# Altium schematic symbol library LT8616EUDE.Schlib: 1 symbol
Pins are listed as number, name and electrical type; pins without a type are passive.

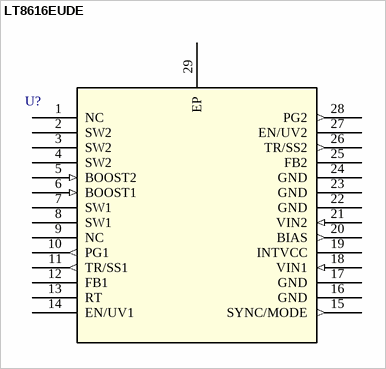
[diagram p0: symbol LT8616EUDE]

## LT8616EUDE
designator U?
Dual OutPut Buck Regulator
pins: 1 NC, 2 SW2 (power), 3 SW2 (power), 4 SW2 (power), 5 BOOST2 (in), 6 BOOST1 (in), 7 SW1 (power), 8 SW1 (power), 9 NC, 10 PG1 (out), 11 TR/SS1 (out), 12 FB1, 13 RT, 14 EN/UV1, 15 SYNC/MODE (out), 16 GND, 17 GND, 18 VIN1 (in), 19 INTVCC (power), 20 BIAS (out), 21 VIN2 (in), 22 GND, 23 GND, 24 GND, 25 FB2, 26 TR/SS2 (out), 27 EN/UV2, 28 PG2 (out), 29 EP